# EAGLE library part TEENSY_SD_CARD (library LEDCyrWheel)
TEENSY SD Card Aadapter
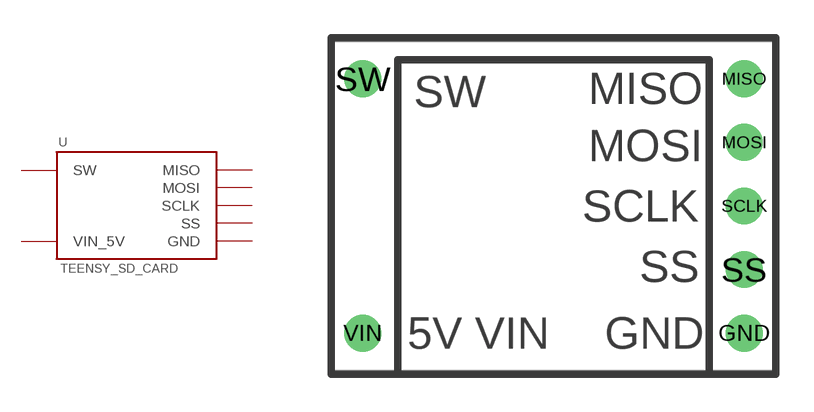
[diagram p0: symbol with the pads of TEENSY_SD_CARD; footprint TEENSY_SD_CARD]

Designator prefix -

## TEENSY_SD_CARD  [TEENSY_SD_CARD]
GND  GND  pwr
MISO  MISO
MOSI  MOSI
SCLK  SCLK
SS  SS
SW  SW
VIN  VIN_5V  pwr

## Footprint TEENSY_SD_CARD (pad centres in mm)
Teensy SD Card Adapter PJRC SD Adapater <https://www.pjrc.com/teensy/sd_adaptor.html>
drill 0.965: GND 7.62,-5.08; MISO 7.62,5.08; MOSI 7.62,2.54; SCLK 7.62,0; SS 7.62,-2.54; SW -7.62,5.08; VIN -7.62,-5.08